# Altium footprint library PcbLib1.PcbLib: 20 footprints (part 2 of 2)
Each footprint in its own frame and in the unit in brackets; x right, y up, seen from the top. Pads: shape width x height; smd on the part's side, far side on the other; paste and mask are expansions set on the pad; w line width, h text height; cw(c..) or ccw(c..) is an arc to the next point about the centre after c.
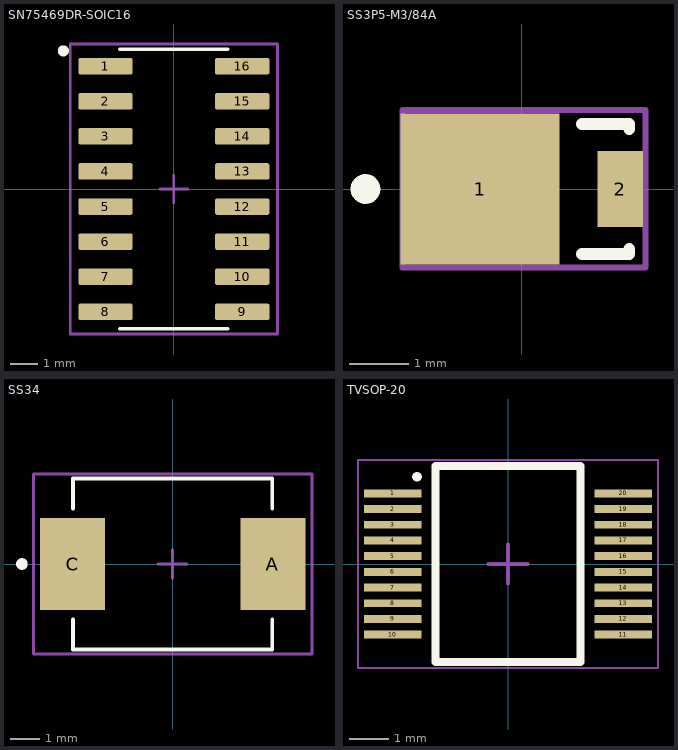
[diagram p1: the footprints below, top view; thin cyan lines are the x and y axes]

## SN75469DR-SOIC16 [mm]
pads (16):
  rrect25% 1.97x0.6 smd: 1(-2.475,4.445) 2(-2.475,3.175) 3(-2.475,1.905) 4(-2.475,0.635) 5(-2.475,-0.635) 6(-2.475,-1.905) 7(-2.475,-3.175) 8(-2.475,-4.445) 9(2.475,-4.445) 10(2.475,-3.175) 11(2.475,-1.905) 12(2.475,-0.635) 13(2.475,0.635) 14(2.475,1.905) 15(2.475,3.175) 16(2.475,4.445)
Top Overlay:
  circle w0.2: c-4,5 r0.1
  lines w0.127: -1.95,-5.065 1.95,-5.065 ; -1.95,5.065 1.95,5.065
Top Component Center:
  lines w0.1: -0.5,0 0.5,0 ; 0,-0.5 0,0.5 ; -3.75,-5.25 3.75,-5.25 3.75,5.25 -3.75,5.25 -3.75,-5.25
Top Designator:
  lines w0.1: -3.75,-5.25 -3.75,5.25 3.75,5.25 3.75,-5.25 -3.75,-5.25
  text ".Designator" at 0.561,-3 h3
3D body "ULN2003LVDR.STEP": height 1.75, standoff 0, extent -2.997,-4.953 2.997,4.953

## SS3P5-M3/84A [mil]
pads (2):
  rect 105.12x100 smd paste+0 mask+0: 1(-27.5,0)
  rect 30x50 smd paste+0 mask+0: 2(65.06,0)
Top Overlay:
  circle w9.84: c-103.35,0 r4.92
  lines w7.87: 39.82,-42.91 71.06,-42.91 71.06,-39.76 ; 39.82,42.91 71.06,42.91 71.06,39.76
Top Component Center:
  lines w3.94: -19.68,0 19.68,0 ; 0,-19.68 0,19.68 ; -78.74,-51.78 81.92,-51.78 81.92,52.21 -78.74,52.21 -78.74,9.84 -78.74,-9.84 -78.74,-51.78
Top Designator:
  lines w3.94: -78.74,-51.78 -78.74,-9.84 -78.74,9.84 -78.74,52.21 81.92,52.21 81.92,-51.78 -78.74,-51.78
  text ".Designator" at -26.54,-7.7 h39.37
Mechanical 10:
  text ".Designator" at 0,0 h39.37
3D body "Diode_Vishay_SS3P5-M3-84A_eec.STEP": height 39.45, standoff 0, extent -75.78,-40.35 75.8,40.36

## SS34 [mm]
pads (2):
  rect 2.25x3.18 smd: A(3.455,0) C(-3.455,0)
Top Overlay:
  circle w0.2: c-5.2,0 r0.1
  lines w0.127: -3.437,-1.91 -3.437,-2.95 3.437,-2.95 3.437,-1.91 ; -3.437,1.91 -3.437,2.95 3.437,2.95 3.437,1.91
Top Component Center:
  lines w0.1: -0.5,0 0.5,0 ; 0,-0.5 0,0.5 ; -4.8,-3.1 4.8,-3.1 4.8,3.1 -4.8,3.1 -4.8,2.1 -4.8,-3.1
Top Designator:
  lines w0.1: -4.8,-3.1 4.8,-3.1 4.8,3.1 -4.8,3.1 -4.8,2.1 -4.8,-3.1
  text ".Designator" at -1.6,-0.661 h3
3D body "SS34.STEP": height 2.46, standoff -0.04, extent -4.15,-2.8 3.75,3

## TVSOP-20 [mm]
pads (20):
  rect 1.475x0.2 smd: 1(-2.938,1.8) 2(-2.938,1.4) 3(-2.938,1) 4(-2.938,0.6) 5(-2.938,0.2) 6(-2.938,-0.2) 7(-2.938,-0.6) 8(-2.938,-1) 9(-2.938,-1.4) 10(-2.938,-1.8) 11(2.938,-1.8) 12(2.938,-1.4) 13(2.938,-1) 14(2.938,-0.6) 15(2.938,-0.2) 16(2.938,0.2) 17(2.938,0.6) 18(2.938,1) 19(2.938,1.4) 20(2.938,1.8)
Top Overlay:
  lines w0.2: -1.85,-2.5 1.85,-2.5 1.85,2.5 -1.85,2.5 -1.85,-2.5
  lines w0.254: -2.325,2.225 cw(c-2.42,2.152) -2.325,2.225
Top Component Center:
  lines w0.05: -3.825,-2.65 -3.825,2.65 3.825,2.65 3.825,-2.65 -3.825,-2.65
  lines w0.1: -0.5,0 0.5,0 ; 0,-0.5 0,0.5
Top Designator:
  lines w0.05: -3.825,-2.65 3.825,-2.65 3.825,2.65 -3.825,2.65 -3.825,-2.65
  text ".Designator" at -0.5,-0.354 h1
3D body "SN74CBT3244DGVR.stp": height 1.13, standoff 0, extent -3.2,-2.5 3.2,2.5